# Altium schematic symbol library DASH1_Schlib1.SchLib: 33 symbols (part 1 of 2)
Pins are listed as number, name and electrical type; pins without a type are passive.

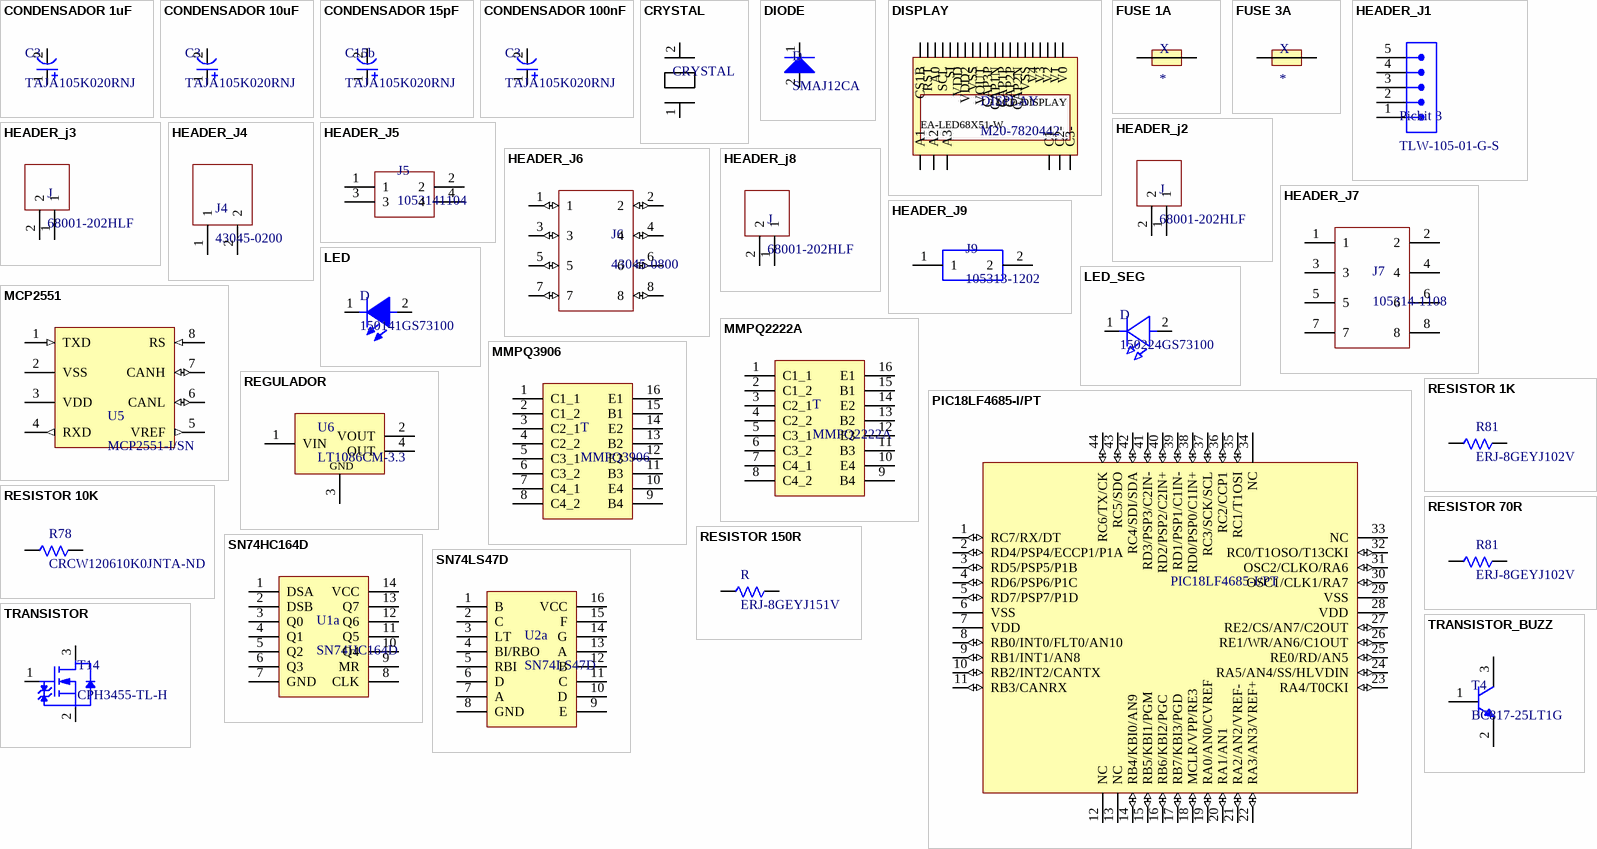
[diagram p0: symbols CONDENSADOR 1uF to TRANSISTOR_BUZZ]

## CONDENSADOR 1uF
designator C3, comment TAJA105K020RNJ
CAP TANT 1uF 20V 10% 1206; Manufacturer 1: Kyocera AVX; Dielectric Material: Tantalum; Tolerance: 20%; ESR (Equivalent Series Resistance): 9R; Leakage Current: 500nA; Polarity: Polar; Dissipation Factor: 4%; Supplier 1: Digi-Key; Manufacturer Part Number 1: TAJA105K020RNJ; Stock 1: 73338; Pricing 1: 1=0,31000, 10=0,21900, 100=0,13110, 500=0,09832, 1000=0,08303 (USD); RoHS: Yes; Mount: Surface Mount,PCB; Case/Package: 1206; Number of Pins: 2; Case Code (Imperial): 1206; Case Code (Metric): 3216; Min Operating Temperature: -55°C; Max Operating Temperature: 125°C; Capacitance: 1uF; Voltage Rating: 20V; Voltage Rating (DC): 20V; Package Quantity: 1; Packaging: Tape and Reel; Termination: SMD/SMT; Voltage: 20V; Features: General Purpose; Length: 3.2mm; Height: 1.6mm; Width: 1.6mm; Height - Seated (Max): 0.071inch; Depth: 1.6mm; Radiation Hardening: No; REACH SVHC: No SVHC; Lead Free: Lead Free; ComponentLink1URL: https://datasheet.ciiva.com/12883/taj-27497-12883280.pdf?src-supplier=Mouser; ComponentLink1Description: https://datasheet.ciiva.com/12883/taj-27497-12883280.pdf?src-supplier=Mouser; ComponentLink2URL: https://datasheet.ciiva.com/11794/0900766b80ccdc61-11794382.pdf?src-supplier=RSComponents; ComponentLink2Description: https://datasheet.ciiva.com/11794/0900766b80ccdc61-11794382.pdf?src-supplier=RSComponents; ComponentLink3URL: https://datasheet.ciiva.com/263/taj-263412.pdf?src-supplier=Digi-Key; ComponentLink3Description: https://datasheet.ciiva.com/263/taj-263412.pdf?src-supplier=Digi-Key; ComponentLink4URL: https://datasheet.ciiva.com/3004/taj-3004372.pdf?src-supplier=Avnet; ComponentLink4Description: https://datasheet.ciiva.com/3004/taj-3004372.pdf?src-supplier=Avnet; ComponentLink5URL: https://datasheet.ciiva.com/263/taj-263414.pdf?src-supplier=Digi-Key; ComponentLink5Description: https://datasheet.ciiva.com/263/taj-263414.pdf?src-supplier=Digi-Key; ComponentLink6URL: https://datasheet.ciiva.com/263/taj-263413.pdf?src-supplier=Digi-Key; ComponentLink6Description: https://datasheet.ciiva.com/263/taj-263413.pdf?src-supplier=Digi-Key; ComponentLink7URL: https://datasheet.ciiva.com/3004/taj-3004373.pdf?src-supplier=Avnet; ComponentLink7Description: https://datasheet.ciiva.com/3004/taj-3004373.pdf?src-supplier=Avnet; ComponentLink8URL: https://datasheet.ciiva.com/14608/70001050-14608053.pdf?src-supplier=Allied+Electronics; ComponentLink8Description: https://datasheet.ciiva.com/14608/70001050-14608053.pdf?src-supplier=Allied+Electronics; ComponentLink9URL: https://datasheet.ciiva.com/14598/70001050-14598921.pdf?src-supplier=Allied+Electronics; ComponentLink9Description: https://datasheet.ciiva.com/14598/70001050-14598921.pdf?src-supplier=Allied+Electronics; ComponentLink10URL: https://datasheet.ciiva.com/16486/taj-16486073.pdf?src-supplier=Avnet+Asia; ComponentLink10Description: https://datasheet.ciiva.com/16486/taj-16486073.pdf?src-supplier=Avnet+Asia; ComponentLink11URL: https://datasheet.ciiva.com/16203/taj-16203563.pdf?src-supplier=Future+Electronics; ComponentLink11Description: https://datasheet.ciiva.com/16203/taj-16203563.pdf?src-supplier=Future+Electronics; Supplier Part Number 1: 478-1650-1-ND; Category: condensador
footprint Chip2PinSM127P600-8N(condensador)
pins: 1, 2

## CONDENSADOR 10uF
designator C3, comment TAJA105K020RNJ
CAP TANT 10uF 20V 10% 1206; Manufacturer 1: Kyocera AVX; Dielectric Material: Tantalum; Capacitance: 1uF; Tolerance: 20%; ESR (Equivalent Series Resistance): 9R; Leakage Current: 500nA; Polarity: Polar; Dissipation Factor: 4%; Supplier 1: Digi-Key; Manufacturer Part Number 1: TAJA105K020RNJ; Stock 1: 73338; Pricing 1: 1=0,31000, 10=0,21900, 100=0,13110, 500=0,09832, 1000=0,08303 (USD); RoHS: Yes; Mount: Surface Mount,PCB; Case/Package: 1206; Number of Pins: 2; Case Code (Imperial): 1206; Case Code (Metric): 3216; Min Operating Temperature: -55°C; Max Operating Temperature: 125°C; Voltage Rating: 20V; Voltage Rating (DC): 20V; Package Quantity: 1; Packaging: Tape and Reel; Termination: SMD/SMT; Voltage: 20V; Features: General Purpose; Length: 3.2mm; Height: 1.6mm; Width: 1.6mm; Height - Seated (Max): 0.071inch; Depth: 1.6mm; Radiation Hardening: No; REACH SVHC: No SVHC; Lead Free: Lead Free; ComponentLink1URL: https://datasheet.ciiva.com/12883/taj-27497-12883280.pdf?src-supplier=Mouser; ComponentLink1Description: https://datasheet.ciiva.com/12883/taj-27497-12883280.pdf?src-supplier=Mouser; ComponentLink2URL: https://datasheet.ciiva.com/11794/0900766b80ccdc61-11794382.pdf?src-supplier=RSComponents; ComponentLink2Description: https://datasheet.ciiva.com/11794/0900766b80ccdc61-11794382.pdf?src-supplier=RSComponents; ComponentLink3URL: https://datasheet.ciiva.com/263/taj-263412.pdf?src-supplier=Digi-Key; ComponentLink3Description: https://datasheet.ciiva.com/263/taj-263412.pdf?src-supplier=Digi-Key; ComponentLink4URL: https://datasheet.ciiva.com/3004/taj-3004372.pdf?src-supplier=Avnet; ComponentLink4Description: https://datasheet.ciiva.com/3004/taj-3004372.pdf?src-supplier=Avnet; ComponentLink5URL: https://datasheet.ciiva.com/263/taj-263414.pdf?src-supplier=Digi-Key; ComponentLink5Description: https://datasheet.ciiva.com/263/taj-263414.pdf?src-supplier=Digi-Key; ComponentLink6URL: https://datasheet.ciiva.com/263/taj-263413.pdf?src-supplier=Digi-Key; ComponentLink6Description: https://datasheet.ciiva.com/263/taj-263413.pdf?src-supplier=Digi-Key; ComponentLink7URL: https://datasheet.ciiva.com/3004/taj-3004373.pdf?src-supplier=Avnet; ComponentLink7Description: https://datasheet.ciiva.com/3004/taj-3004373.pdf?src-supplier=Avnet; ComponentLink8URL: https://datasheet.ciiva.com/14608/70001050-14608053.pdf?src-supplier=Allied+Electronics; ComponentLink8Description: https://datasheet.ciiva.com/14608/70001050-14608053.pdf?src-supplier=Allied+Electronics; ComponentLink9URL: https://datasheet.ciiva.com/14598/70001050-14598921.pdf?src-supplier=Allied+Electronics; ComponentLink9Description: https://datasheet.ciiva.com/14598/70001050-14598921.pdf?src-supplier=Allied+Electronics; ComponentLink10URL: https://datasheet.ciiva.com/16486/taj-16486073.pdf?src-supplier=Avnet+Asia; ComponentLink10Description: https://datasheet.ciiva.com/16486/taj-16486073.pdf?src-supplier=Avnet+Asia; ComponentLink11URL: https://datasheet.ciiva.com/16203/taj-16203563.pdf?src-supplier=Future+Electronics; ComponentLink11Description: https://datasheet.ciiva.com/16203/taj-16203563.pdf?src-supplier=Future+Electronics; Supplier Part Number 1: 478-1650-1-ND; Category: condensador
footprint Chip2PinSM127P600-8N(condensador)
pins: 1, 2

## CONDENSADOR 15pF
designator C15b, comment TAJA105K020RNJ
CAP TANT 15pF 20V 10% 1206; Manufacturer 1: Kyocera AVX; Dielectric Material: Tantalum; Capacitance: 1uF; Tolerance: 20%; ESR (Equivalent Series Resistance): 9R; Leakage Current: 500nA; Polarity: Polar; Dissipation Factor: 4%; Supplier 1: Digi-Key; Manufacturer Part Number 1: TAJA105K020RNJ; Stock 1: 73338; Pricing 1: 1=0,31000, 10=0,21900, 100=0,13110, 500=0,09832, 1000=0,08303 (USD); RoHS: Yes; Mount: Surface Mount,PCB; Case/Package: 1206; Number of Pins: 2; Case Code (Imperial): 1206; Case Code (Metric): 3216; Min Operating Temperature: -55°C; Max Operating Temperature: 125°C; Voltage Rating: 20V; Voltage Rating (DC): 20V; Package Quantity: 1; Packaging: Tape and Reel; Termination: SMD/SMT; Voltage: 20V; Features: General Purpose; Length: 3.2mm; Height: 1.6mm; Width: 1.6mm; Height - Seated (Max): 0.071inch; Depth: 1.6mm; Radiation Hardening: No; REACH SVHC: No SVHC; Lead Free: Lead Free; ComponentLink1URL: https://datasheet.ciiva.com/12883/taj-27497-12883280.pdf?src-supplier=Mouser; ComponentLink1Description: https://datasheet.ciiva.com/12883/taj-27497-12883280.pdf?src-supplier=Mouser; ComponentLink2URL: https://datasheet.ciiva.com/11794/0900766b80ccdc61-11794382.pdf?src-supplier=RSComponents; ComponentLink2Description: https://datasheet.ciiva.com/11794/0900766b80ccdc61-11794382.pdf?src-supplier=RSComponents; ComponentLink3URL: https://datasheet.ciiva.com/263/taj-263412.pdf?src-supplier=Digi-Key; ComponentLink3Description: https://datasheet.ciiva.com/263/taj-263412.pdf?src-supplier=Digi-Key; ComponentLink4URL: https://datasheet.ciiva.com/3004/taj-3004372.pdf?src-supplier=Avnet; ComponentLink4Description: https://datasheet.ciiva.com/3004/taj-3004372.pdf?src-supplier=Avnet; ComponentLink5URL: https://datasheet.ciiva.com/263/taj-263414.pdf?src-supplier=Digi-Key; ComponentLink5Description: https://datasheet.ciiva.com/263/taj-263414.pdf?src-supplier=Digi-Key; ComponentLink6URL: https://datasheet.ciiva.com/263/taj-263413.pdf?src-supplier=Digi-Key; ComponentLink6Description: https://datasheet.ciiva.com/263/taj-263413.pdf?src-supplier=Digi-Key; ComponentLink7URL: https://datasheet.ciiva.com/3004/taj-3004373.pdf?src-supplier=Avnet; ComponentLink7Description: https://datasheet.ciiva.com/3004/taj-3004373.pdf?src-supplier=Avnet; ComponentLink8URL: https://datasheet.ciiva.com/14608/70001050-14608053.pdf?src-supplier=Allied+Electronics; ComponentLink8Description: https://datasheet.ciiva.com/14608/70001050-14608053.pdf?src-supplier=Allied+Electronics; ComponentLink9URL: https://datasheet.ciiva.com/14598/70001050-14598921.pdf?src-supplier=Allied+Electronics; ComponentLink9Description: https://datasheet.ciiva.com/14598/70001050-14598921.pdf?src-supplier=Allied+Electronics; ComponentLink10URL: https://datasheet.ciiva.com/16486/taj-16486073.pdf?src-supplier=Avnet+Asia; ComponentLink10Description: https://datasheet.ciiva.com/16486/taj-16486073.pdf?src-supplier=Avnet+Asia; ComponentLink11URL: https://datasheet.ciiva.com/16203/taj-16203563.pdf?src-supplier=Future+Electronics; ComponentLink11Description: https://datasheet.ciiva.com/16203/taj-16203563.pdf?src-supplier=Future+Electronics; Supplier Part Number 1: 478-1650-1-ND; Category: condensador
footprint Chip2PinSM127P600-8N(condensador)
pins: 1, 2

## CONDENSADOR 100nF
designator C3, comment TAJA105K020RNJ
CAP TANT 100nF 20V 10% 1206; Manufacturer 1: Kyocera AVX; Dielectric Material: Tantalum; Capacitance: 1uF; Tolerance: 20%; ESR (Equivalent Series Resistance): 9R; Leakage Current: 500nA; Polarity: Polar; Dissipation Factor: 4%; Supplier 1: Digi-Key; Manufacturer Part Number 1: TAJA105K020RNJ; Stock 1: 73338; Pricing 1: 1=0,31000, 10=0,21900, 100=0,13110, 500=0,09832, 1000=0,08303 (USD); RoHS: Yes; Mount: Surface Mount,PCB; Case/Package: 1206; Number of Pins: 2; Case Code (Imperial): 1206; Case Code (Metric): 3216; Min Operating Temperature: -55°C; Max Operating Temperature: 125°C; Voltage Rating: 20V; Voltage Rating (DC): 20V; Package Quantity: 1; Packaging: Tape and Reel; Termination: SMD/SMT; Voltage: 20V; Features: General Purpose; Length: 3.2mm; Height: 1.6mm; Width: 1.6mm; Height - Seated (Max): 0.071inch; Depth: 1.6mm; Radiation Hardening: No; REACH SVHC: No SVHC; Lead Free: Lead Free; ComponentLink1URL: https://datasheet.ciiva.com/12883/taj-27497-12883280.pdf?src-supplier=Mouser; ComponentLink1Description: https://datasheet.ciiva.com/12883/taj-27497-12883280.pdf?src-supplier=Mouser; ComponentLink2URL: https://datasheet.ciiva.com/11794/0900766b80ccdc61-11794382.pdf?src-supplier=RSComponents; ComponentLink2Description: https://datasheet.ciiva.com/11794/0900766b80ccdc61-11794382.pdf?src-supplier=RSComponents; ComponentLink3URL: https://datasheet.ciiva.com/263/taj-263412.pdf?src-supplier=Digi-Key; ComponentLink3Description: https://datasheet.ciiva.com/263/taj-263412.pdf?src-supplier=Digi-Key; ComponentLink4URL: https://datasheet.ciiva.com/3004/taj-3004372.pdf?src-supplier=Avnet; ComponentLink4Description: https://datasheet.ciiva.com/3004/taj-3004372.pdf?src-supplier=Avnet; ComponentLink5URL: https://datasheet.ciiva.com/263/taj-263414.pdf?src-supplier=Digi-Key; ComponentLink5Description: https://datasheet.ciiva.com/263/taj-263414.pdf?src-supplier=Digi-Key; ComponentLink6URL: https://datasheet.ciiva.com/263/taj-263413.pdf?src-supplier=Digi-Key; ComponentLink6Description: https://datasheet.ciiva.com/263/taj-263413.pdf?src-supplier=Digi-Key; ComponentLink7URL: https://datasheet.ciiva.com/3004/taj-3004373.pdf?src-supplier=Avnet; ComponentLink7Description: https://datasheet.ciiva.com/3004/taj-3004373.pdf?src-supplier=Avnet; ComponentLink8URL: https://datasheet.ciiva.com/14608/70001050-14608053.pdf?src-supplier=Allied+Electronics; ComponentLink8Description: https://datasheet.ciiva.com/14608/70001050-14608053.pdf?src-supplier=Allied+Electronics; ComponentLink9URL: https://datasheet.ciiva.com/14598/70001050-14598921.pdf?src-supplier=Allied+Electronics; ComponentLink9Description: https://datasheet.ciiva.com/14598/70001050-14598921.pdf?src-supplier=Allied+Electronics; ComponentLink10URL: https://datasheet.ciiva.com/16486/taj-16486073.pdf?src-supplier=Avnet+Asia; ComponentLink10Description: https://datasheet.ciiva.com/16486/taj-16486073.pdf?src-supplier=Avnet+Asia; ComponentLink11URL: https://datasheet.ciiva.com/16203/taj-16203563.pdf?src-supplier=Future+Electronics; ComponentLink11Description: https://datasheet.ciiva.com/16203/taj-16203563.pdf?src-supplier=Future+Electronics; Supplier Part Number 1: 478-1650-1-ND; Category: condensador
footprint Chip2PinSM127P600-8N(condensador)
pins: 1, 2

## CRYSTAL
designator CRYSTAL
footprint CRYSTAL
pins: 1, 2

## DIODE
designator D, comment SMAJ12CA
TVS DIODE 12V 19.9V DO214AC; Manufacturer 1: Littelfuse; Peak Pulse Power: 400W; Polarity: Bidirectional; Peak Pulse Current: 20.1A; Test Current: 1mA; Reverse Breakdown Voltage: 13.3V; Number of Elements: 1; Leakage Current: 1uA; Element Configuration: Single; Power Line Protection: No; Max Breakdown Voltage: 14.7V; Max Power Dissipation: 3.3W; Capacitance: 800pF; Supplier 1: Digi-Key; Manufacturer Part Number 1: SMAJ12CA; Stock 1: 18116; Pricing 1: 1=0,45000, 10=0,33900, 25=0,30520, 100=0,16100, 250=0,15928, 500=0,14264, 1000=0,11100, 2500=0,10156 (USD); RoHS: Yes; Mount: Surface Mount; Case/Package: SMA; Number of Pins: 2; Min Operating Temperature: -65°C; Max Operating Temperature: 150°C; Clamping Voltage: 19.9V; Packaging: Tape and Reel; Reverse Standoff Voltage: 12V; Package Quantity: 5000; Breakdown Voltage: 13.3V; Max Surge Current: 20.1A; Min Breakdown Voltage: 13.3V; Operating Supply Voltage: 12V; Direction: Bidirectional; Number of Channels: 1; Max Reverse Leakage Current: 1uA; Termination: SMD/SMT; Composition: Zener; Number of Bidirectional Channels: 1; Power Dissipation: 400W; Voltage Rating (DC): 12V; Max Output Current: 20.1A; Length: 4.5mm; Height: 2.087mm; Width: 2.79mm; Radiation Hardening: No; Lead Free: Lead Free; REACH SVHC: No SVHC; ComponentLink1URL: https://datasheet.ciiva.com/14162/smaj-eng-ds-14162034.pdf?src-supplier=Distrelec; ComponentLink1Description: https://datasheet.ciiva.com/14162/smaj-eng-ds-14162034.pdf?src-supplier=Distrelec; ComponentLink2URL: https://datasheet.ciiva.com/25624/0900766b810f4edb-25624831.pdf?src-supplier=RSComponents; ComponentLink2Description: https://datasheet.ciiva.com/25624/0900766b810f4edb-25624831.pdf?src-supplier=RSComponents; ComponentLink3URL: https://datasheet.ciiva.com/331/littelfuse-tvs-diode-smaj-datasheet-pdf-331080.pdf?src-supplier=Digi-Key; ComponentLink3Description: https://datasheet.ciiva.com/331/littelfuse-tvs-diode-smaj-datasheet-pdf-331080.pdf?src-supplier=Digi-Key; ComponentLink4URL: https://datasheet.ciiva.com/8062/littelfuse-tvs-diode-smaj-8062265.pdf?src-supplier=Element14; ComponentLink4Description: https://datasheet.ciiva.com/8062/littelfuse-tvs-diode-smaj-8062265.pdf?src-supplier=Element14; ComponentLink5URL: https://datasheet.ciiva.com/4511/littelfuse-tvs-diode-smaj-23503-4511037.pdf?src-supplier=Mouser; ComponentLink5Description: https://datasheet.ciiva.com/4511/littelfuse-tvs-diode-smaj-23503-4511037.pdf?src-supplier=Mouser; ComponentLink6URL: https://datasheet.ciiva.com/28473/607617-28473381.pdf?src-supplier=Element14; ComponentLink6Description: https://datasheet.ciiva.com/28473/607617-28473381.pdf?src-supplier=Element14; ComponentLink7URL: https://datasheet.ciiva.com/331/littelfuse-tvs-diode-smaj-datasheet-pdf-331078.pdf?src-supplier=Digi-Key; ComponentLink7Description: https://datasheet.ciiva.com/331/littelfuse-tvs-diode-smaj-datasheet-pdf-331078.pdf?src-supplier=Digi-Key; ComponentLink8URL: https://datasheet.ciiva.com/331/littelfuse-tvs-diode-smaj-datasheet-pdf-331079.pdf?src-supplier=Digi-Key; ComponentLink8Description: https://datasheet.ciiva.com/331/littelfuse-tvs-diode-smaj-datasheet-pdf-331079.pdf?src-supplier=Digi-Key; Supplier Part Number 1: SMAJ12CALFCT-ND; Category: Diode
footprint Diode
pins: 1 catode, 2 anode

## DISPLAY
designator DISPLAY, comment M20-7820442
2.54mm (0.1") Pitch SIL Vertical PC Tail Socket Assembly, selective gold + tin, 4 contacts; Manufacturer 1: Harwin; Number of Contacts: 4; Max Current Rating: 3A; Contact Resistance: 20mR; Connector Type: Receptacle,Socket; Gender: Female; Supplier 1: Digi-Key; Manufacturer Part Number 1: M20-7820442; Stock 1: 903; Pricing 1: 1=0,81000, 10=0,71400, 100=0,61600, 500=0,50400, 1000=0,44800, 5000=0,39200, 10000=0,37240 (USD); RoHS: Yes; Mount: Through Hole; Case/Package: SIL; Weight: 0.012699oz; Contact Plating: Gold,Tin; Color: Black; Contact Material: Bronze; Housing Color: Black; Housing Material: Nylon; Min Operating Temperature: -40°C; Max Operating Temperature: 105°C; Number of Rows: 1; Termination: Solder; Packaging: Rail/Tube; Contact Gender: Female; Package Quantity: 56; Number of Positions: 4; Orientation: Straight; Length: 10.56mm; Pitch: 2.54mm; Depth: 2.5mm; Radiation Hardening: No; ComponentLink1URL: http://components.arrow.com/part/dataview/0323_00725859?src-supplier=Arrow+Europe; ComponentLink1Description: http://components.arrow.com/part/dataview/0323_00725859?src-supplier=Arrow+Europe; ComponentLink2URL: http://www.mouser.com/ds/2/181/Harwin_Product_Catalog_page_197-1134272.pdf?src-supplier=Mouser; ComponentLink2Description: http://www.mouser.com/ds/2/181/Harwin_Product_Catalog_page_197-1134272.pdf?src-supplier=Mouser; ComponentLink3URL: https://cdn.harwin.com/pdfs/Harwin_PC_Connectors_M20.pdf?src-supplier=Digi-Key; ComponentLink3Description: https://cdn.harwin.com/pdfs/Harwin_PC_Connectors_M20.pdf?src-supplier=Digi-Key; ComponentLink4URL: http://www.harwin.com/include/downloads/pdfs/2010PAGE120.PDF?src-supplier=Avnet; ComponentLink4Description: http://www.harwin.com/include/downloads/pdfs/2010PAGE120.PDF?src-supplier=Avnet; ComponentLink5URL: https://cdn.harwin.com/pdfs/60page140.pdf?src-supplier=Avnet+Europe; ComponentLink5Description: https://cdn.harwin.com/pdfs/60page140.pdf?src-supplier=Avnet+Europe; Supplier Part Number 1: 952-1791-ND
footprint DISPLAY
pins: 21 V0, 22 V1, 23 V2, 24 V3, 25 V4, 26 VSS, 27 CAP2N, 28 CAP2P, 29 CAP1P, 30 CAP1N, 31 CAP3P, 32 VOUT, 33 VSS, 34 VDD2, 35 VDD, 36 SI, 37 SCL, 38 A0, 39 RST, 40 CS1B, 41 A1, 42 A2, 43 A3, 44 C3-, 45 C2-, 46 C1-
text: LCD-DISPLAY; EA-LED68X51-W

## FUSE 1A
designator X
footprint Fuse
pins: 1, 2

## FUSE 3A
designator X
footprint Fuse
pins: 1, 2

## HEADER_J1
designator Pickit 3, comment TLW-105-01-G-S
Conn Unshrouded Header HDR 5 POS 2.54mm Solder RA Thru-Hole; Manufacturer 1: Samtec; Manufacturer Part Number 1: TLW-105-01-G-S-RA; Number of Contacts: 5; Gender: Male; Supplier 1: Digi-Key; Stock 1: 950; Pricing 1: 1=1,20000 (USD); RoHS: Yes; Mount: Through Hole; Contact Plating: Gold; Number of Rows: 1; Termination: Solder; Packaging: Bulk; Pitch: 2.54mm; Radiation Hardening: No; ComponentLink1URL: https://datasheet.ciiva.com/10350/mtlw-th-10350142.pdf?src-supplier=Avnet; ComponentLink1Description: https://datasheet.ciiva.com/10350/mtlw-th-10350142.pdf?src-supplier=Avnet; Supplier Part Number 1: TLW-105-01-G-S-RA-ND
footprint J1
pins: 1, 2, 3, 4, 5

## HEADER_j2
designator J, comment 68001-202HLF
CONN HEADER VERT 2POS 2.54MM; Manufacturer 1: Amphenol FCI; Number of Contacts: 2; Current Rating: 3A; Voltage Rating: 1.5kV; Insulation Resistance: 5GR; Gender: Male; Connector Type: Male Pin; Contact Post Length: 3.05mm; Supplier 1: Digi-Key; Manufacturer Part Number 1: 68001-202HLF; Stock 1: 39971; Pricing 1: 1=0,24000, 10=0,22100, 100=0,15290, 500=0,12936, 1000=0,10584, 5000=0,09408, 10000=0,08526 (USD); RoHS: Yes; Mount: Through Hole; Contact Plating: Gold,GXT; Contact Material: Bronze; Color: Black; Housing Color: Black; Housing Material: Thermoplastic; Min Operating Temperature: -65°C; Max Operating Temperature: 125°C; Number of Rows: 1; Termination: Solder; Contact Gender: Male; Packaging: Bulk; Package Quantity: 100; Number of Positions: 2; Max Voltage Rating (AC): 1.5kV; Orientation: Straight; Length: 5.08mm; Pitch: 2.54mm; Contact Mating Length: 0.23inch; Depth: 2.41mm; Radiation Hardening: No; REACH SVHC: No SVHC; Flammability Rating: UL94 V-0; ComponentLink1URL: https://datasheet.ciiva.com/5155/68000-274330-5155060.pdf?src-supplier=Mouser; ComponentLink1Description: https://datasheet.ciiva.com/5155/68000-274330-5155060.pdf?src-supplier=Mouser; ComponentLink2URL: https://datasheet.ciiva.com/16726/68000-16726182.pdf?src-supplier=Avnet+Europe; ComponentLink2Description: https://datasheet.ciiva.com/16726/68000-16726182.pdf?src-supplier=Avnet+Europe; ComponentLink3URL: https://datasheet.ciiva.com/10149/68000-10149336.pdf?src-supplier=Avnet; ComponentLink3Description: https://datasheet.ciiva.com/10149/68000-10149336.pdf?src-supplier=Avnet; ComponentLink4URL: https://datasheet.ciiva.com/731/68000-731070.pdf?src-supplier=Digi-Key; ComponentLink4Description: https://datasheet.ciiva.com/731/68000-731070.pdf?src-supplier=Digi-Key; Supplier Part Number 1: 609-3469-ND; Category: Connector
footprint J2
pins: 1, 2

## HEADER_j3
designator J, comment 68001-202HLF
CONN HEADER VERT 2POS 2.54MM; Manufacturer 1: Amphenol FCI; Number of Contacts: 2; Current Rating: 3A; Voltage Rating: 1.5kV; Insulation Resistance: 5GR; Gender: Male; Connector Type: Male Pin; Contact Post Length: 3.05mm; Supplier 1: Digi-Key; Manufacturer Part Number 1: 68001-202HLF; Stock 1: 39971; Pricing 1: 1=0,24000, 10=0,22100, 100=0,15290, 500=0,12936, 1000=0,10584, 5000=0,09408, 10000=0,08526 (USD); RoHS: Yes; Mount: Through Hole; Contact Plating: Gold,GXT; Contact Material: Bronze; Color: Black; Housing Color: Black; Housing Material: Thermoplastic; Min Operating Temperature: -65°C; Max Operating Temperature: 125°C; Number of Rows: 1; Termination: Solder; Contact Gender: Male; Packaging: Bulk; Package Quantity: 100; Number of Positions: 2; Max Voltage Rating (AC): 1.5kV; Orientation: Straight; Length: 5.08mm; Pitch: 2.54mm; Contact Mating Length: 0.23inch; Depth: 2.41mm; Radiation Hardening: No; REACH SVHC: No SVHC; Flammability Rating: UL94 V-0; ComponentLink1URL: https://datasheet.ciiva.com/5155/68000-274330-5155060.pdf?src-supplier=Mouser; ComponentLink1Description: https://datasheet.ciiva.com/5155/68000-274330-5155060.pdf?src-supplier=Mouser; ComponentLink2URL: https://datasheet.ciiva.com/16726/68000-16726182.pdf?src-supplier=Avnet+Europe; ComponentLink2Description: https://datasheet.ciiva.com/16726/68000-16726182.pdf?src-supplier=Avnet+Europe; ComponentLink3URL: https://datasheet.ciiva.com/10149/68000-10149336.pdf?src-supplier=Avnet; ComponentLink3Description: https://datasheet.ciiva.com/10149/68000-10149336.pdf?src-supplier=Avnet; ComponentLink4URL: https://datasheet.ciiva.com/731/68000-731070.pdf?src-supplier=Digi-Key; ComponentLink4Description: https://datasheet.ciiva.com/731/68000-731070.pdf?src-supplier=Digi-Key; Supplier Part Number 1: 609-3469-ND; Category: Connector
footprint J3
pins: 1, 2

## HEADER_J4
designator J4, comment 43045-0200
CONN HEADER R/A 2POS; Manufacturer 1: Molex; Contact Resistance: 10mR; Number of Contacts: 2; Voltage Rating: 600V; Current Rating: 5A; Gender: Male; Max Voltage Rating (DC): 250.25kV; Voltage Rating (DC): 250V; Insulation Resistance: 1GR; Pitch: 3mm; Glow Wire Compliant: Compliant; Approvals: UL,CSA,TUV; Supplier 1: Digi-Key; Manufacturer Part Number 1: 43045-0200; Stock 1: 6359; Pricing 1: 1=0,97000, 10=0,84900, 100=0,73280, 500=0,59958, 1000=0,53296, 5000=0,46634, 10000=0,44302 (USD); RoHS: Yes; Mount: Through Hole; Case/Package: SMC; Contact Plating: Tin; Color: Black; Contact Material: Brass,Tin; Housing Color: Black; Housing Material: Thermoplastic; Material: Thermoplastic; Min Operating Temperature: -40°C; Max Operating Temperature: 105°C; Termination: Through Hole; Number of Rows: 2; Orientation: Right Angle; Packaging: Tray; Number of Positions: 2; Package Quantity: 3168; Number of Circuits: 2; Contact Gender: Male; Diameter: 3mm; Row Spacing: 3mm; Radiation Hardening: No; Flammability Rating: UL94 V-0; REACH SVHC: Unknown; Lead Free: Lead Free; Halogen Free: Low Halogen; ComponentLink1URL: https://datasheet.ciiva.com/14155/04402310-14155203.pdf?src-supplier=Distrelec; ComponentLink1Description: https://datasheet.ciiva.com/14155/04402310-14155203.pdf?src-supplier=Distrelec; ComponentLink2URL: https://datasheet.ciiva.com/19454/883270-19454006.pdf?src-supplier=Jameco; ComponentLink2Description: https://datasheet.ciiva.com/19454/883270-19454006.pdf?src-supplier=Jameco; ComponentLink3URL: https://datasheet.ciiva.com/5150/0430450200-pcb-headers-145770-5150407.pdf?src-supplier=Mouser; ComponentLink3Description: https://datasheet.ciiva.com/5150/0430450200-pcb-headers-145770-5150407.pdf?src-supplier=Mouser; ComponentLink4URL: https://datasheet.ciiva.com/11747/0900766b80027348-11747001.pdf?src-supplier=RSComponents; ComponentLink4Description: https://datasheet.ciiva.com/11747/0900766b80027348-11747001.pdf?src-supplier=RSComponents; ComponentLink5URL: https://datasheet.ciiva.com/16656/0430450200-pcb-headers-16656330.pdf?src-supplier=Avnet+Europe; ComponentLink5Description: https://datasheet.ciiva.com/16656/0430450200-pcb-headers-16656330.pdf?src-supplier=Avnet+Europe; ComponentLink6URL: https://datasheet.ciiva.com/10090/0430450200-pcb-headers-10090299.pdf?src-supplier=Avnet; ComponentLink6Description: https://datasheet.ciiva.com/10090/0430450200-pcb-headers-10090299.pdf?src-supplier=Avnet; ComponentLink7URL: https://datasheet.ciiva.com/36854/124280430450200-pcb-headers-36854331.pdf?src-supplier=Onlinecomponents.com; ComponentLink7Description: https://datasheet.ciiva.com/36854/124280430450200-pcb-headers-36854331.pdf?src-supplier=Onlinecomponents.com; ComponentLink8URL: https://datasheet.ciiva.com/1443/1859921-1443437.pdf?src-supplier=Element14; ComponentLink8Description: https://datasheet.ciiva.com/1443/1859921-1443437.pdf?src-supplier=Element14; Supplier Part Number 1: WM1813-ND
footprint J4
pins: 1, 2

## HEADER_J5
designator J5, comment 1053141104
NANO-FIT RIGHT ANGLE HEADER, TH; Manufacturer 1: Molex; Connector Type: Header,Male Pin; Number of Positions: 4; Supplier 1: Digi-Key; Manufacturer Part Number 1: 1053141104; Stock 1: 1022; Pricing 1: 1=1,08000, 10=0,95100, 300=0,74580, 600=0,67122, 1200=0,59664, 5100=0,52206, 10200=0,49596 (USD); RoHS: No; Mount: Through Hole; Contact Plating: Tin; Contact Material: Brass; Contact Shape: Square; Insulation Material: Polymer; Insulation Color: Black; Min Operating Temperature: -40°C; Max Operating Temperature: 105°C; Fastening Type: Latch; Packaging: Tray; Number of Rows: 2; Termination: Solder; ComponentLink1URL: https://www.molex.com/pdm_docs/ps/PS-105300-100-001.pdf?src-supplier=Digi-Key; ComponentLink1Description: https://www.molex.com/pdm_docs/ps/PS-105300-100-001.pdf?src-supplier=Digi-Key; Supplier Part Number 1: WM16907-ND
footprint J5
pins: 1, 2, 3, 4

## HEADER_J6
designator J6, comment 43045-0800
CONN HEADER R/A 8POS 3MM; Manufacturer 1: Molex; Number of Contacts: 8; Contact Resistance: 10mR; Max Voltage Rating (DC): 250.25kV; Current Rating: 5A; Voltage Rating (AC): 250V; Voltage Rating: 600V; Gender: Male; Insulation Resistance: 1GR; Approvals: UL,CSA,TUV; Glow Wire Compliant: Compliant; Supplier 1: Digi-Key; Manufacturer Part Number 1: 43045-0800; Stock 1: 1548; Pricing 1: 1=1,91000, 10=1,73100, 100=1,48390, 500=1,23656, 1000=1,05990, 5000=0,93978, 10000=0,91858 (USD); RoHS: Yes; Mount: Through Hole; Case/Package: SMC; Contact Plating: Tin; Contact Material: Brass,Tin; Color: Black; Housing Color: Black; Housing Material: Thermoplastic; Material: Polyester; Min Operating Temperature: -40°C; Max Operating Temperature: 105°C; Number of Rows: 2; Termination: Solder; Packaging: Tray; Number of Positions: 8; Orientation: Right Angle; Number of Poles: 8; Package Quantity: 1440; Max Current Rating: 5A; Number of Circuits: 8; Working Voltage: 250V; Voltage Rating (DC): 250V; Diameter: 3mm; Length: 16.15mm; Height: 8.77mm; Pitch: 3mm; Row Spacing: 3mm; Depth: 12.2mm; Radiation Hardening: No; Flammability Rating: UL94 V-0; REACH SVHC: Unknown; Halogen Free: Low Halogen; Lead Free: Lead Free; ComponentLink1URL: https://datasheet.ciiva.com/5158/0430450800-pcb-headers-142625-5158817.pdf?src-supplier=Mouser; ComponentLink1Description: https://datasheet.ciiva.com/5158/0430450800-pcb-headers-142625-5158817.pdf?src-supplier=Mouser; ComponentLink2URL: https://datasheet.ciiva.com/7683/27645-7683683.pdf?src-supplier=Element14; ComponentLink2Description: https://datasheet.ciiva.com/7683/27645-7683683.pdf?src-supplier=Element14; ComponentLink3URL: https://datasheet.ciiva.com/19462/883536-19462164.pdf?src-supplier=Jameco; ComponentLink3Description: https://datasheet.ciiva.com/19462/883536-19462164.pdf?src-supplier=Jameco; ComponentLink4URL: https://datasheet.ciiva.com/11751/0900766b80027348-11751142.pdf?src-supplier=RSComponents; ComponentLink4Description: https://datasheet.ciiva.com/11751/0900766b80027348-11751142.pdf?src-supplier=RSComponents; ComponentLink5URL: https://datasheet.ciiva.com/30198/267770430450800-pcb-headers-30198875.pdf?src-supplier=Onlinecomponents.com; ComponentLink5Description: https://datasheet.ciiva.com/30198/267770430450800-pcb-headers-30198875.pdf?src-supplier=Onlinecomponents.com; ComponentLink6URL: https://datasheet.ciiva.com/1443/1850016-1443537.pdf?src-supplier=Element14; ComponentLink6Description: https://datasheet.ciiva.com/1443/1850016-1443537.pdf?src-supplier=Element14; ComponentLink7URL: https://datasheet.ciiva.com/14155/04402310-14155206.pdf?src-supplier=Distrelec; ComponentLink7Description: https://datasheet.ciiva.com/14155/04402310-14155206.pdf?src-supplier=Distrelec; ComponentLink8URL: https://datasheet.ciiva.com/16657/0430450800-pcb-headers-16657964.pdf?src-supplier=Avnet+Europe; ComponentLink8Description: https://datasheet.ciiva.com/16657/0430450800-pcb-headers-16657964.pdf?src-supplier=Avnet+Europe; ComponentLink9URL: https://datasheet.ciiva.com/10087/0430450800-pcb-headers-10087853.pdf?src-supplier=Avnet; ComponentLink9Description: https://datasheet.ciiva.com/10087/0430450800-pcb-headers-10087853.pdf?src-supplier=Avnet; Supplier Part Number 1: WM1816-ND
footprint J6
pins: 1 (io), 2 (io), 3 (io), 4 (io), 5 (io), 6 (io), 7 (io), 8 (io)

## HEADER_J7
designator J7, comment 105314-1108
Conn Power HDR 8 POS 2.5mm Solder RA Thru-Hole 8 Terminal 1 Port Nano-Fit Tray; Manufacturer 1: Molex; Connector Type: Header,Male Pin; Number of Positions: 8; Supplier 1: Digi-Key; Manufacturer Part Number 1: 105314-1108; Stock 1: 846; Pricing 1: 1=1,71000, 10=1,55200, 156=1,33013, 624=1,10845, 1092=0,95010, 5148=0,84242, 10140=0,82342 (USD); RoHS: No; Mount: Through Hole; Contact Plating: Tin; Contact Material: Brass; Contact Shape: Square; Insulation Material: Polymer; Insulation Color: Black; Min Operating Temperature: -40°C; Max Operating Temperature: 105°C; Fastening Type: Latch; Packaging: Tray; Number of Rows: 2; Termination: Solder; ComponentLink1URL: https://www.molex.com/pdm_docs/sd/1053141104_sd.pdf?src-supplier=Digi-Key; ComponentLink1Description: https://www.molex.com/pdm_docs/sd/1053141104_sd.pdf?src-supplier=Digi-Key; Supplier Part Number 1: WM16909-ND
footprint J7
pins: 1, 2, 3, 4, 5, 6, 7, 8

## HEADER_j8
designator J, comment 68001-202HLF
CONN HEADER VERT 2POS 2.54MM; Manufacturer 1: Amphenol FCI; Number of Contacts: 2; Current Rating: 3A; Voltage Rating: 1.5kV; Insulation Resistance: 5GR; Gender: Male; Connector Type: Male Pin; Contact Post Length: 3.05mm; Supplier 1: Digi-Key; Manufacturer Part Number 1: 68001-202HLF; Stock 1: 39971; Pricing 1: 1=0,24000, 10=0,22100, 100=0,15290, 500=0,12936, 1000=0,10584, 5000=0,09408, 10000=0,08526 (USD); RoHS: Yes; Mount: Through Hole; Contact Plating: Gold,GXT; Contact Material: Bronze; Color: Black; Housing Color: Black; Housing Material: Thermoplastic; Min Operating Temperature: -65°C; Max Operating Temperature: 125°C; Number of Rows: 1; Termination: Solder; Contact Gender: Male; Packaging: Bulk; Package Quantity: 100; Number of Positions: 2; Max Voltage Rating (AC): 1.5kV; Orientation: Straight; Length: 5.08mm; Pitch: 2.54mm; Contact Mating Length: 0.23inch; Depth: 2.41mm; Radiation Hardening: No; REACH SVHC: No SVHC; Flammability Rating: UL94 V-0; ComponentLink1URL: https://datasheet.ciiva.com/5155/68000-274330-5155060.pdf?src-supplier=Mouser; ComponentLink1Description: https://datasheet.ciiva.com/5155/68000-274330-5155060.pdf?src-supplier=Mouser; ComponentLink2URL: https://datasheet.ciiva.com/16726/68000-16726182.pdf?src-supplier=Avnet+Europe; ComponentLink2Description: https://datasheet.ciiva.com/16726/68000-16726182.pdf?src-supplier=Avnet+Europe; ComponentLink3URL: https://datasheet.ciiva.com/10149/68000-10149336.pdf?src-supplier=Avnet; ComponentLink3Description: https://datasheet.ciiva.com/10149/68000-10149336.pdf?src-supplier=Avnet; ComponentLink4URL: https://datasheet.ciiva.com/731/68000-731070.pdf?src-supplier=Digi-Key; ComponentLink4Description: https://datasheet.ciiva.com/731/68000-731070.pdf?src-supplier=Digi-Key; Supplier Part Number 1: 609-3469-ND; Category: Connector
footprint J8
pins: 1, 2

## HEADER_J9
designator J9, comment 105313-1202
CONN HEADER R/A 2POS 2.5MM; Manufacturer 1: Molex; Gender: Male; Supplier 1: RSComponents; Manufacturer Part Number 1: 105313-1202; Stock 1: 130; Pricing 1: 10=0,81300, 50=0,47400, 200=0,46200, 500=0,45000 (EUR); RoHS: No; Mount: Through Hole; Number of Pins: 2; Contact Plating: Gold; Contact Material: Brass; Color: Black; Termination: Through Hole; Number of Rows: 1; REACH SVHC: Unknown; ComponentLink1URL: http://www.farnell.com/datasheets/2221462.pdf?src-supplier=Farnell; ComponentLink1Description: http://www.farnell.com/datasheets/2221462.pdf?src-supplier=Farnell; ComponentLink2URL: http://www.farnell.com/datasheets/2059602.pdf?src-supplier=Element14; ComponentLink2Description: http://www.farnell.com/datasheets/2059602.pdf?src-supplier=Element14; ComponentLink3URL: http://www.farnell.com/datasheets/2221462.pdf?src-supplier=Newark; ComponentLink3Description: http://www.farnell.com/datasheets/2221462.pdf?src-supplier=Newark; ComponentLink4URL: https://www.molex.com/pdm_docs/sd/1053131102_sd.pdf?src-supplier=Digi-Key; ComponentLink4Description: https://www.molex.com/pdm_docs/sd/1053131102_sd.pdf?src-supplier=Digi-Key; Supplier Part Number 1: 1225083
footprint J9
pins: 1, 2

## LED
designator D, comment 150141GS73100
WURTH ELEKTRONIK   150141GS73100   LED, 1411, GREEN, 1000MCD, 525NM; Manufacturer 1: Wurth Electronics; Viewing Angle: 120°; Forward Voltage: 3.1V; Lens Style: Clear,Round; Forward Current: 30mA; Test Current: 20mA; Supplier 1: Digi-Key; Manufacturer Part Number 1: 150141GS73100; Stock 1: 10639; Pricing 1: 1=0,18000, 50=0,17600, 100=0,15300, 500=0,11700 (USD); RoHS: Yes; Mount: Surface Mount; Case/Package: 3528; Color: Green; Case Code (Metric): 3528; Case Code (Imperial): 1411; Min Operating Temperature: -40°C; Max Operating Temperature: 85°C; Luminous Intensity: 1000mcd; Wavelength: 525nm; Packaging: Cut Tape; Package Quantity: 2000; Dominant Wavelength: 525nm; Length: 3.5mm; Height: 1.9mm; Width: 2.8mm; REACH SVHC: Unknown; Lead Free: Lead Free; ComponentLink1URL: https://datasheet.ciiva.com/23843/150141gs73100-23843266.pdf?src-supplier=Newark; ComponentLink1Description: https://datasheet.ciiva.com/23843/150141gs73100-23843266.pdf?src-supplier=Newark; ComponentLink2URL: https://datasheet.ciiva.com/29278/759463-da-01-en-smd-topled-einf-gruen-150141gs73100-29278953.pdf?src-supplier=Conrad; ComponentLink2Description: https://datasheet.ciiva.com/29278/759463-da-01-en-smd-topled-einf-gruen-150141gs73100-29278953.pdf?src-supplier=Conrad; ComponentLink3URL: https://datasheet.ciiva.com/22656/1911484-22656997.pdf?src-supplier=Element14; ComponentLink3Description: https://datasheet.ciiva.com/22656/1911484-22656997.pdf?src-supplier=Element14; ComponentLink4URL: https://datasheet.ciiva.com/29563/150141gs73100-29563029.pdf?src-supplier=Digi-Key; ComponentLink4Description: https://datasheet.ciiva.com/29563/150141gs73100-29563029.pdf?src-supplier=Digi-Key; ComponentLink5URL: https://datasheet.ciiva.com/29563/150141gs73100-29563030.pdf?src-supplier=Digi-Key; ComponentLink5Description: https://datasheet.ciiva.com/29563/150141gs73100-29563030.pdf?src-supplier=Digi-Key; ComponentLink6URL: https://datasheet.ciiva.com/48430/150141gs73100-eng-tds-48430060.pdf?src-supplier=Distrelec; ComponentLink6Description: https://datasheet.ciiva.com/48430/150141gs73100-eng-tds-48430060.pdf?src-supplier=Distrelec; Supplier Part Number 1: 732-4997-1-ND
footprint Chip2PinSM127P600-8N(Buzz)
pins: 1 CATODE, 2 ANODE

## LED_SEG
designator D, comment 150224GS73100
LED GREEN CLEAR 2SMD 528NM; Manufacturer 1: Wurth Electronics; Supplier 1: Digi-Key; Manufacturer Part Number 1: 150224GS73100; Stock 1: 697; Pricing 1: 1=0,71000, 50=0,58400, 100=0,41800, 500=0,38100 (USD); RoHS: No; ComponentLink1URL: https://katalog.we-online.de/led/datasheet/150224GS73100.pdf?src-supplier=Digi-Key; ComponentLink1Description: https://katalog.we-online.de/led/datasheet/150224GS73100.pdf?src-supplier=Digi-Key; Supplier Part Number 1: 732-11398-1-ND
footprint Chip2PinSM127P600-8N
pins: 1 CATODE, 2 ANODE

## MCP2551
designator U5, comment MCP2551-I/SN
MICROCHIP - MCP2551-I/SN - HI SPEED TRANSCEIVER CAN CMS 2551; Max Supply Voltage: 5.5V; Min Supply Voltage: 4.5V; Data Rate: 1Mbps; Operating Supply Voltage: 5V; Nominal Supply Current: 75mA; Number of Transceivers: 1; Slew Rate: 8.5V/µs; Supplier 1: Digi-Key; Manufacturer 1: Microchip; Manufacturer Part Number 1: MCP2551-I/SN; Stock 1: 18330; Pricing 1: 1=1,02000, 25=0,85000 (USD); RoHS: Yes; Mount: Surface Mount; Case/Package: SOIC; Number of Pins: 8; Number of Terminals: 8; Contact Plating: Tin,Matte; Min Operating Temperature: -40°C; Max Operating Temperature: 85°C; Packaging: Rail/Tube; Package Quantity: 100; Interface: CAN; Number of Transmit Buffers: 1; Number of Receive Buffers: 1; Max Supply Current: 75mA; Number of Drivers: 1; Number of Receivers: 1; Logic Function: Transceiver; Length: 4.9mm; Height: 1.25mm; Width: 3.9mm; Radiation Hardening: No; REACH SVHC: No SVHC; Lead Free: Lead Free; ComponentLink1URL: https://datasheet.ciiva.com/8084/jp011797-8084592.pdf?src-supplier=Avnet; ComponentLink1Description: https://datasheet.ciiva.com/8084/jp011797-8084592.pdf?src-supplier=Avnet; ComponentLink2URL: https://datasheet.ciiva.com/27056/2040583-27056423.pdf?src-supplier=Jameco; ComponentLink2Description: https://datasheet.ciiva.com/27056/2040583-27056423.pdf?src-supplier=Jameco; ComponentLink3URL: https://datasheet.ciiva.com/1495/21667f-1495089.pdf?src-supplier=Element14; ComponentLink3Description: https://datasheet.ciiva.com/1495/21667f-1495089.pdf?src-supplier=Element14; ComponentLink4URL: https://datasheet.ciiva.com/1700/21667f-1700023.pdf?src-supplier=Digi-Key; ComponentLink4Description: https://datasheet.ciiva.com/1700/21667f-1700023.pdf?src-supplier=Digi-Key; ComponentLink5URL: https://datasheet.ciiva.com/14152/eb644223-644224-e-14152540.pdf?src-supplier=Distrelec; ComponentLink5Description: https://datasheet.ciiva.com/14152/eb644223-644224-e-14152540.pdf?src-supplier=Distrelec; ComponentLink6URL: https://datasheet.ciiva.com/17649/jp011797-17649039.pdf?src-supplier=Avnet+Europe; ComponentLink6Description: https://datasheet.ciiva.com/17649/jp011797-17649039.pdf?src-supplier=Avnet+Europe; Supplier Part Number 1: MCP2551-I/SN-ND
footprint SOP127P600-8N(MCP2551)
pins: 1 TXD (in), 2 VSS, 3 VDD, 4 RXD (out), 5 VREF (out), 6 CANL (io), 7 CANH (io), 8 RS (in)

## MMPQ2222A
designator T
TRANS 4NPN 40V 0.5A 16SOIC; Manufacturer 1: ON Semiconductor / Fairchild; hFE Min: 100; Max Power Dissipation: 1W; Polarity: NPN; Collector Base Voltage (VCBO): 75V; Emitter Base Voltage (VEBO): 5V; Max Collector Current: 500mA; Gain Bandwidth Product: 350MHz; Collector Emitter Saturation Voltage: 1V; Transition Frequency: 300MHz; Number of Elements: 4; Supplier 1: Digi-Key; Manufacturer Part Number 1: MMPQ2222A; Stock 1: 16456; Pricing 1: 1=1,81000, 10=1,62600, 100=1,19650, 500=1,01240, 1000=0,85900 (USD); RoHS: Yes; Mount: Surface Mount; Case/Package: SOIC; Number of Pins: 16; Weight: 0.143g; Min Operating Temperature: -55°C; Max Operating Temperature: 150°C; Packaging: Tape and Reel; Package Quantity: 1; Collector Emitter Voltage (VCEO): 40V; Collector Emitter Breakdown Voltage: 40V; Max Breakdown Voltage: 40V; Frequency: 300MHz; Power Dissipation: 1W; Max Frequency: 300MHz; Length: 10mm; Height: 1.5mm; Width: 4mm; Radiation Hardening: No; Lead Free: Lead Free; REACH SVHC: No SVHC; ComponentLink1URL: https://datasheet.ciiva.com/4722/mmpq2222a-196204-4722036.pdf?src-supplier=Mouser; ComponentLink1Description: https://datasheet.ciiva.com/4722/mmpq2222a-196204-4722036.pdf?src-supplier=Mouser; ComponentLink2URL: https://datasheet.ciiva.com/34301/213997-34301353.pdf?src-supplier=Jameco; ComponentLink2Description: https://datasheet.ciiva.com/34301/213997-34301353.pdf?src-supplier=Jameco; ComponentLink3URL: https://datasheet.ciiva.com/16747/mmpq2222a-16747285.pdf?src-supplier=Future+Electronics; ComponentLink3Description: https://datasheet.ciiva.com/16747/mmpq2222a-16747285.pdf?src-supplier=Future+Electronics; ComponentLink4URL: https://datasheet.ciiva.com/7972/172298-7972839.pdf?src-supplier=Element14; ComponentLink4Description: https://datasheet.ciiva.com/7972/172298-7972839.pdf?src-supplier=Element14; ComponentLink5URL: https://datasheet.ciiva.com/968/ffb2222a-968058.pdf?src-supplier=Digi-Key; ComponentLink5Description: https://datasheet.ciiva.com/968/ffb2222a-968058.pdf?src-supplier=Digi-Key; ComponentLink6URL: https://datasheet.ciiva.com/968/ffb2222a-968059.pdf?src-supplier=Digi-Key; ComponentLink6Description: https://datasheet.ciiva.com/968/ffb2222a-968059.pdf?src-supplier=Digi-Key; ComponentLink7URL: https://datasheet.ciiva.com/968/ffb2222a-968060.pdf?src-supplier=Digi-Key; ComponentLink7Description: https://datasheet.ciiva.com/968/ffb2222a-968060.pdf?src-supplier=Digi-Key; ComponentLink8URL: https://datasheet.ciiva.com/1192/172298-1192860.pdf?src-supplier=Element14; ComponentLink8Description: https://datasheet.ciiva.com/1192/172298-1192860.pdf?src-supplier=Element14; Supplier Part Number 1: MMPQ2222ACT-ND
footprint SOP127P600-8N(MMPQ2222A)
pins: 1 C1_1, 2 C1_2, 3 C2_1, 4 C2_2, 5 C3_1, 6 C3_2, 7 C4_1, 8 C4_2, 9 B4, 10 E4, 11 B3, 12 E3, 13 B2, 14 E2, 15 B1, 16 E1

## MMPQ3906
designator T
Bipolar Transistors - BJT 200mA 40V PNP; Manufacturer 1: ON Semiconductor / Fairchild; Max Power Dissipation: 1W; Collector Base Voltage (VCBO): -40V; Emitter Base Voltage (VEBO): -5V; Gain Bandwidth Product: 200MHz; hFE Min: 75; Collector Emitter Saturation Voltage: -100mV; Number of Elements: 4; Current Rating: -200mA; Supplier 1: Digi-Key; Manufacturer Part Number 1: MMPQ3906; Stock 1: 819; Pricing 1: 1=1,73000, 10=1,55400, 100=1,14340, 500=0,96752, 1000=0,82093 (USD); RoHS: Yes; Mount: Surface Mount; Case/Package: SOIC; Number of Pins: 16; Weight: 0.143g; Min Operating Temperature: -55°C; Max Operating Temperature: 150°C; Packaging: Tape and Reel; Collector Emitter Voltage (VCEO): 40V; Max Collector Current: 200mA; Package Quantity: 2500; Polarity: PNP; Collector Emitter Breakdown Voltage: 40V; Transition Frequency: 200MHz; Max Breakdown Voltage: 40V; Frequency: 200MHz; Power Dissipation: 1W; Max Frequency: 200MHz; Voltage Rating (DC): -40V; Length: 10mm; Height: 1.5mm; Width: 4mm; Radiation Hardening: No; Lead Free: Lead Free; REACH SVHC: No SVHC; ComponentLink1URL: https://datasheet.ciiva.com/4721/mmpq3906-196132-4721366.pdf?src-supplier=Mouser; ComponentLink1Description: https://datasheet.ciiva.com/4721/mmpq3906-196132-4721366.pdf?src-supplier=Mouser; ComponentLink2URL: https://datasheet.ciiva.com/15139/getdatasheetpartid-95866-15139209.pdf?src-supplier=Verical; ComponentLink2Description: https://datasheet.ciiva.com/15139/getdatasheetpartid-95866-15139209.pdf?src-supplier=Verical; ComponentLink3URL: https://datasheet.ciiva.com/6365/ffb3906-6365115.pdf?src-supplier=Digi-Key; ComponentLink3Description: https://datasheet.ciiva.com/6365/ffb3906-6365115.pdf?src-supplier=Digi-Key; ComponentLink4URL: https://datasheet.ciiva.com/6365/ffb3906-6365116.pdf?src-supplier=Digi-Key; ComponentLink4Description: https://datasheet.ciiva.com/6365/ffb3906-6365116.pdf?src-supplier=Digi-Key; ComponentLink5URL: https://datasheet.ciiva.com/11198/mmpq3906-11198668.pdf?src-supplier=Avnet; ComponentLink5Description: https://datasheet.ciiva.com/11198/mmpq3906-11198668.pdf?src-supplier=Avnet; ComponentLink6URL: https://datasheet.ciiva.com/46415/1785330-46415820.pdf?src-supplier=Element14; ComponentLink6Description: https://datasheet.ciiva.com/46415/1785330-46415820.pdf?src-supplier=Element14; ComponentLink7URL: https://datasheet.ciiva.com/6365/ffb3906-6365117.pdf?src-supplier=Digi-Key; ComponentLink7Description: https://datasheet.ciiva.com/6365/ffb3906-6365117.pdf?src-supplier=Digi-Key; ComponentLink8URL: https://datasheet.ciiva.com/7972/1785330-7972797.pdf?src-supplier=Element14; ComponentLink8Description: https://datasheet.ciiva.com/7972/1785330-7972797.pdf?src-supplier=Element14; Supplier Part Number 1: MMPQ3906CT-ND
footprint SOP127P600-8N(MMPQ3906)
pins: 1 C1_1, 2 C1_2, 3 C2_1, 4 C2_2, 5 C3_1, 6 C3_2, 7 C4_1, 8 C4_2, 9 B4, 10 E4, 11 B3, 12 E3, 13 B2, 14 E2, 15 B1, 16 E1

## PIC18LF4685-I/PT
designator PIC18LF4685-I/PT
IC MCU 8BIT 96KB FLASH 44TQFP; Manufacturer 1: Microchip; Manufacturer Part Number 1: PIC18LF4685-I/PT; Interface: I2C,SPI,CAN,UART,USART; Number of I/Os: 36; Number of Timers/Counters: 4; Max Supply Voltage: 5.5V; Min Supply Voltage: 2V; RAM Size: 3.25KB; Max Power Dissipation: 1W; Frequency: 40MHz; Data Bus Width: 8b; Number of Programmable I/O: 44; Oscillator Type: Internal; Number of ADC Channels: 11; Number of SPI Channels: 1; Watchdog Timer: Yes; Access Time: 40us; Peripherals: PWM,I2C,Brown-out Detect/Reset,POR,WDT,HLVD; Core Architecture: PIC; Supplier 1: Digi-Key; Stock 1: 53; Pricing 1: 1=8,79000, 25=8,06000 (USD); RoHS: Yes; Mount: Surface Mount; Case/Package: TQFP; Number of Pins: 44; Min Operating Temperature: -40°C; Max Operating Temperature: 85°C; Packaging: Tray; Package Quantity: 160; Max Frequency: 40MHz; Number of I2C Channels: 1; Memory Type: FLASH; Memory Size: 96KB; Number of UART Channels: 1; Length: 10mm; Height: 1.05mm; Width: 10mm; Radiation Hardening: No; REACH SVHC: No SVHC; Lead Free: Lead Free; ComponentLink1URL: https://datasheet.ciiva.com/9230/jp026433-9230074.pdf?src-supplier=Avnet; ComponentLink1Description: https://datasheet.ciiva.com/9230/jp026433-9230074.pdf?src-supplier=Avnet; ComponentLink2URL: https://datasheet.ciiva.com/6656/39761c-6656155.pdf?src-supplier=Digi-Key; ComponentLink2Description: https://datasheet.ciiva.com/6656/39761c-6656155.pdf?src-supplier=Digi-Key; ComponentLink3URL: https://datasheet.ciiva.com/16356/39761c-16356555.pdf?src-supplier=Future+Electronics; ComponentLink3Description: https://datasheet.ciiva.com/16356/39761c-16356555.pdf?src-supplier=Future+Electronics; ComponentLink4URL: https://datasheet.ciiva.com/22671/721078-22671516.pdf?src-supplier=Element14; ComponentLink4Description: https://datasheet.ciiva.com/22671/721078-22671516.pdf?src-supplier=Element14; ComponentLink5URL: https://datasheet.ciiva.com/41454/001084550-da-01-en-ic-pic-mcu-pic18lf4685-i-pt-tqfp-44-mcp-41454204.pdf?src-supplier=Conrad; ComponentLink5Description: https://datasheet.ciiva.com/41454/001084550-da-01-en-ic-pic-mcu-pic18lf4685-i-pt-tqfp-44-mcp-41454204.pdf?src-supplier=Conrad; Supplier Part Number 1: PIC18LF4685-I/PT-ND
footprint TQFP80P1200X1200X120-44N (TQFP, 44-Leads, Body 10,00x10,00mm, Pitch 0,80mm, IPC Medium Density)
pins: 1 RC7/RX/DT (io), 2 RD4/PSP4/ECCP1/P1A (io), 3 RD5/PSP5/P1B (io), 4 RD6/PSP6/P1C (io), 5 RD7/PSP7/P1D (io), 6 VSS, 7 VDD, 8 RB0/INT0/FLT0/AN10 (io), 9 RB1/INT1/AN8 (io), 10 RB2/INT2/CANTX (io), 11 RB3/CANRX (io), 12 NC, 13 NC, 14 RB4/KBI0/AN9 (io), 15 RB5/KBI1/PGM (io), 16 RB6/KBI2/PGC (io), 17 RB7/KBI3/PGD (io), 18 MCLR/VPP/RE3 (io), 19 RA0/AN0/CVREF (io), 20 RA1/AN1 (io), 21 RA2/AN2/VREF- (io), 22 RA3/AN3/VREF+ (io), 23 RA4/T0CKI (io), 24 RA5/AN4/SS/HLVDIN (io), 25 RE0/RD/AN5 (io), 26 RE1/WR/AN6/C1OUT (io), 27 RE2/CS/AN7/C2OUT (io), 28 VDD, 29 VSS, 30 OSC1/CLK1/RA7 (io), 31 OSC2/CLKO/RA6 (io), 32 RC0/T1OSO/T13CKI (io), 33 NC, 34 NC, 35 RC1/T1OSI (io), 36 RC2/CCP1 (io), 37 RC3/SCK/SCL (io), 38 RD0/PSP0/C1IN+ (io), 39 RD1/PSP1/C1IN- (io), 40 RD2/PSP2/C2IN+ (io), 41 RD3/PSP3/C2IN- (io), 42 RC4/SDI/SDA (io), 43 RC5/SDO (io), 44 RC6/TX/CK (io)